# Altium footprint library diods.PcbLib: 10 footprints
Each footprint in its own frame and in the unit in brackets; x right, y up, seen from the top. Pads: shape width x height; smd on the part's side, far side on the other; paste and mask are expansions set on the pad; w line width, h text height; cw(c..) or ccw(c..) is an arc to the next point about the centre after c.
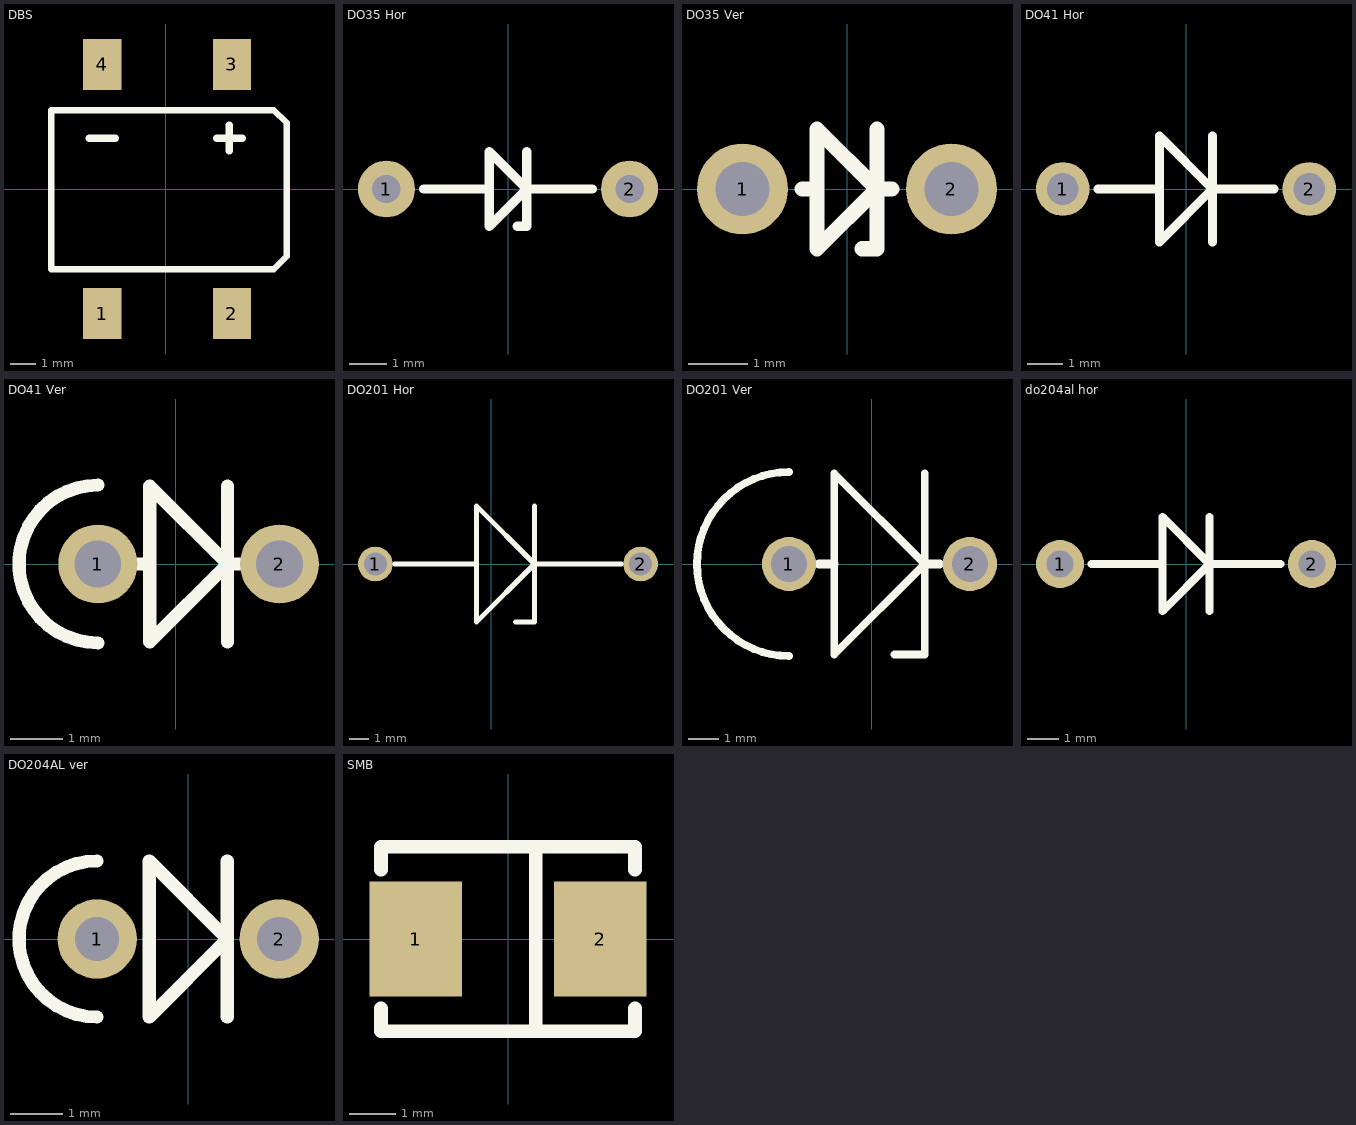
[diagram p0: the footprints below, top view; thin cyan lines are the x and y axes]

## DBS [mm] "SMD Diode bridge"
height 3.3
pads (4):
  rect 1.5x2 smd: 1(-2.5,-4.9) 2(2.6,-4.9) 3(2.6,4.9) 4(-2.5,4.9)
Top Overlay:
  lines w0.25: -4.5,-3.15 -4.5,3.1 4.25,3.1 4.75,2.6 4.75,-2.65 4.25,-3.15 -4.5,-3.15
  lines w0.3: -3,2 -2,2 ; 2,2 3,2 ; 2.5,1.5 2.5,2.5

## DO35 Hor [mil] "Horizontal THT Zener Diod"
height 118.11
pads (2):
  round 60 hole 30: 1(-127.95,0) 2(127.95,0)
Top Overlay:
  lines w10: -88.58,0 -19.68,0 ; 9.84,-39.37 19.68,-39.37 19.68,39.37 ; 88.58,0 19.69,0 ; 19.69,0 -19.68,-39.37 -19.68,39.37 19.69,0

## DO35 Ver [mm] "Vertical THT Diod"
pads (2):
  round 1.524 hole 0.9: 1(-1.75,0) 2(1.75,0)
Top Overlay:
  lines w0.254: -0.75,0 -0.5,0 ; 0.25,-1 0.5,-1 0.5,1 ; 0.75,0 0.5,0 ; 0.5,0 -0.5,1 -0.5,-1 0.5,0

## DO41 Hor [mm] "Horizontal THT Diod"
height 3
pads (2):
  round 1.524 hole 0.9: 1(-3.5,0) 2(3.5,0)
Top Overlay:
  lines w0.254: -2.5,0 -0.75,0 ; 0.75,-1.5 0.75,1.5 ; 2.5,0 0.75,0 ; 0.75,0 -0.75,-1.5 -0.75,1.5 0.75,0

## DO41 Ver [mm] "Vertical  THT Diod"
height 6
pads (2):
  round 1.524 hole 0.9: 1(-1.5,0) 2(2,0)
Top Overlay:
  lines w0.254: -1.5,-1.521 cw(c-1.5,0) -1.5,1.521 ; -0.75,0 -0.5,0 ; 1,-1.5 1,1.5 ; 1.25,0 1,0 ; 1,0 -0.5,1.5 -0.5,-1.5 1,0

## DO201 Hor [mm] "Horizontal THT Zener Diod"
height 6
pads (2):
  round 1.8 hole 1.2: 1(-6,0) 2(7.75,0)
Top Overlay:
  lines w0.254: -5,0 -0.75,0 ; 1.25,-3 2.25,-3 2.25,3 ; 6.75,0 2.25,0 ; 2.25,0 -0.75,3 -0.75,-3 2.25,0

## DO201 Ver [mm] "Horizontal THT Zener Diod"
height 10
pads (2):
  round 1.8 hole 1.2: 1(-2.75,0) 2(3.25,0)
Top Overlay:
  lines w0.254: -2.75,-3.052 cw(c-2.75,0) -2.75,3.052 ; 0.75,-3 1.75,-3 1.75,3 ; -1.25,-3 -1.25,3 1.75,0 -1.25,-3
  lines w0.3: -1.75,0 -1.25,0 ; 1.75,0 2.25,0

## do204al hor [mm] "Horizontal THT Diod"
height 3
pads (2):
  round 1.524 hole 0.85: 1(-4,0) 2(4,0)
Top Overlay:
  lines w0.254: -3,0 -0.75,0 ; 0.75,-1.5 0.75,1.5 ; 3,0 0.75,0 ; 0.75,0 -0.75,1.5 -0.75,-1.5 0.75,0

## DO204AL ver [mm] "Vertical THT Diod"
height 7
pads (2):
  round 1.524 hole 0.85: 1(-1.75,0) 2(1.75,0)
Top Overlay:
  lines w0.254: -1.75,-1.5 cw(c-1.75,0) -1.75,1.5 ; 0.75,-1.5 0.75,1.5 ; -0.75,-1.5 0.75,0 -0.75,1.5 -0.75,-1.5

## SMB [mm] "SMD Diode"
height 2.5
pads (2):
  rect 2x2.5 smd: 1(-2,0) 2(2,0)
Top Overlay:
  lines w0.3: -2.75,-1.5 -2.75,-2 2.75,-2 2.75,-1.5 ; -2.75,1.5 -2.75,2 2.75,2 2.75,1.5 ; 0.6,-2 0.6,2